# Altium schematic symbol library CAPACITOR.SchLib: 15 symbols
Pins are listed as number, name and electrical type; pins without a type are passive.

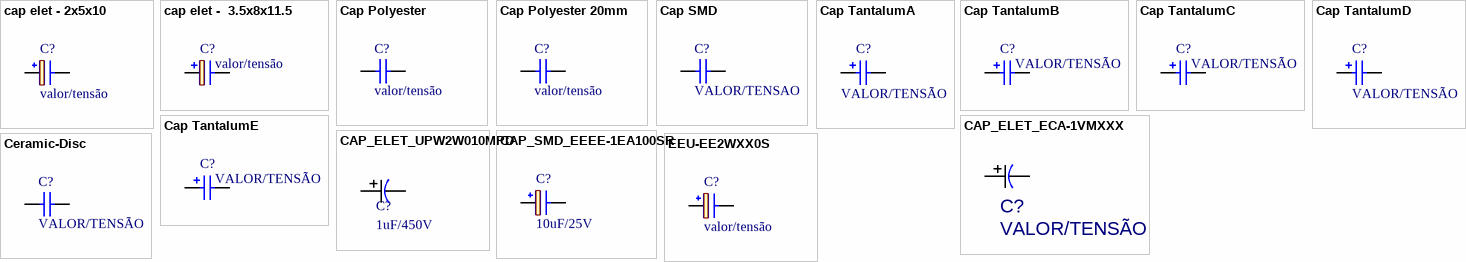
[diagram p0: symbols cap elet - 2x5x10 to EEU-EE2WXX0S]

## cap elet - 2x5x10
designator C?, comment valor/tensão
Capacitor eletrolitico polarizado, P. 2mm, D. 5mm; value: valor/tensão; Footprint: PTH 2mmX5mm (PXD); Fabricante: *; MPN: *
footprint CAPPR2-5x5 (Capacitor, Electrolytic, Radial; Body 5 x 5 mm (Dia.xH typ); Pin Spacing 2 mm (typ))
pins: 1, 2
1 alternate drawing of the same symbol

## cap elet -  3.5x8x11.5
designator C?, comment valor/tensão
capacitor eletrolitico polarizado, esp. 3.5mm, diam. 8mm; value: valor/tensão; Fabricante: *; Footprint: PTH 3.5mmX8mm (PXD); MPN: *
footprint CAPPR3.5-8x11.5 (Capacitor, Electrolytic, Radial; Body 8 x 11.5 mm (Dia.xH typ); Pin Spacing 3.5 mm (typ))
pins: 1, 2
1 alternate drawing of the same symbol

## Cap Polyester
designator C?, comment valor/tensão
Capacitor (Semiconductor SIM Model); fabricante: *; MPN: *; footprint: *; value: valor/tensão
footprint RAD-0.5
pins: 1, 2

## Cap Polyester 20mm
designator C?, comment valor/tensão
Capacitor (Semiconductor SIM Model); value: valor/tensão; fabricante: *; MPN: *; footprint: *
footprint RAD-20mm
pins: 1, 2

## Cap SMD
designator C?, comment VALOR/TENSAO
Capacitor SMD; Fabricante: *; MPN: *; Footprint: smd; value: VALOR/TENSAO
simulation model CAP (Semiconductor Capacitor)
signal-integrity model Cap Semi
footprint CSMD-1206 (Chip Capacitor, 2-Leads, Body 3,20x2,40mm, IPC Medium Density)
footprint CSMD-0201 (Chip Capacitor, 2-Leads, Body 0,60x0,30mm, IPC Medium Density)
footprint CSMD-0402 (Chip Capacitor, 2-Leads, Body 1,00x0,50mm, IPC Medium Density)
footprint CSMD-0603 (Chip Capacitor; Body 1.6 x 0.8 mm (LxW typ))
footprint CSMD-0805 (Chip Resistor; Body 2.0 x 1.3 mm (LxW typ))
pins: 1, 2

## Cap TantalumA
designator C?, comment VALOR/TENSÃO
Solid Tantalum Chip Capacitor; value: VALOR/TENSÃO; fabricante: *; footprint: CASE A; MPN: *
footprint CASE_A (Chip Capacitor; Body 2.54 x 1.27 mm (LxW typ))
pins: 1, 2
1 alternate drawing of the same symbol

## Cap TantalumB
designator C?, comment VALOR/TENSÃO
Solid Tantalum Chip Capacitor; value: VALOR/TENSÃO; fabricante: *; footprint: CASE B; MPN: *
footprint CASE_B (Chip Capacitor; Body 3.81 x 1.27 mm (LxW typ))
pins: 1, 2
1 alternate drawing of the same symbol

## Cap TantalumC
designator C?, comment VALOR/TENSÃO
Solid Tantalum Chip Capacitor; value: VALOR/TENSÃO; footprint: CASE C; fabricante: *; MPN: *
footprint CASE_C (Chip Capacitor; Body 5.08 x 1.27 mm (LxW typ))
pins: 1, 2
1 alternate drawing of the same symbol

## Cap TantalumD
designator C?, comment VALOR/TENSÃO
Solid Tantalum Chip Capacitor; value: VALOR/TENSÃO; footprint: CASE D; fabricante: *; MPN: *
footprint CASE_D (Chip Capacitor; Body 3.81 x 2.54 mm (LxW typ))
pins: 1, 2
1 alternate drawing of the same symbol

## Cap TantalumE
designator C?, comment VALOR/TENSÃO
Solid Tantalum Chip Capacitor; value: VALOR/TENSÃO; fabricante: *; footprint: CASE E; MPN: *
footprint CASE_E (Chip Capacitor; Body 5.08 x 2.54 mm (LxW typ))
pins: 1, 2
1 alternate drawing of the same symbol

## CAP_ELET_ECA-1VMXXX
designator C?, comment VALOR/TENSÃO
Aluminum Electrolytic Capacitors Radial, PTH 2.5mmX6.30mm (PXd); MPN: ECA-1VMXXX; FABRICANTE: Panasonic; FOOTPRINT: PTH 2.50mm X 6.30mm (PXd); Value: VALOR/TENSÃO; ComponentLink1Description: LOJA; ComponentLink1URL: https://www.digikey.com/product-detail/en/panasonic-electronic-components/ECA-1VM101/P5165-ND/245024
footprint CAP_ELET_2.5X6.30 (Aluminum Electrolytic Capacitors Radial)
pins: 1, 2
1 alternate drawing of the same symbol

## CAP_ELET_UPW2W010MPD
designator C?, comment 1uF/450V
CAP ALUM 1UF 20% 450V RADIAL; MPN: UPW2W010MPD; FABRICANTE: Nichicon; FOOTPRINT: PTH RADIAL (10X12.5X5); ComponentLink1Description: LOJA; ComponentLink1URL: https://www.digikey.com/product-detail/en/nichicon/UPW2W010MPD/493-2065-ND/589806; Value: 1uF/450V
footprint CAP_ELET_10X12_5-THR (CAP ELET RADIAL PTH 10X12,5X5)
pins: 1, 2
1 alternate drawing of the same symbol

## CAP_SMD_EEEE-1EA100SR
designator C?, comment 10uF/25V
Aluminum Electrolytic Capacitors Radial, Can - SMD 2000 Hrs @ 85°C SIZE C(5.3mmX5.3mm); MPN: EEE-1EA100SR; Fabricante: PANASONIC; value: 10uF/25V; Footprint: SMD SIZE C; ComponentLink1Description: LOJA; ComponentLink1URL: https://www.digikey.com/product-detail/en/panasonic-electronic-components/EEE-1EA100SR/PCE3894CT-ND/766270
footprint CAPE_SMD_5.3X5.3 (Aluminum Electrolytic Capacitor, Body 5,30x5,30x5,80mm, IPC Low Density)
pins: 1, 2
1 alternate drawing of the same symbol

## Ceramic-Disc
designator C?, comment VALOR/TENSÃO
Capacitor (Semiconductor SIM Model); value: VALOR/TENSÃO; footprint: PTH; fabricante: *; MPN: *
footprint VP45-3.2_1 (Capacitor, Ceramic, Thru-Hole, Dipped Radial; Body 7.8 x 3.2 mm (WxT) Pin Spacing 5.08 mm (typ))
pins: 1, 2

## EEU-EE2WXX0S
designator C?, comment valor/tensão
CAPACITOR ELETROLITICO  ±15%  105oC - PTH RADIAL 18MM X 20MM, 7.5MM; MPN: EEU-EE2WXX0S; Fabricante: PANASONIC; value: valor/tensão; Footprint: PTH 18X20MM; ComponentLink1Description: DATASHEET; ComponentLink1URL: https://industrial.panasonic.com/cdbs/www-data/pdf/RDF0000/ABA0000C1026.pdf
footprint CAP_ELET_18X20 (Cap Elect Radial; Body 18 x 20 mm (Dia.xH typ); Pin Spacing 7.5 mm)
pins: 1, 2
1 alternate drawing of the same symbol